# EAGLE library part TB6593FNG (library ICs)
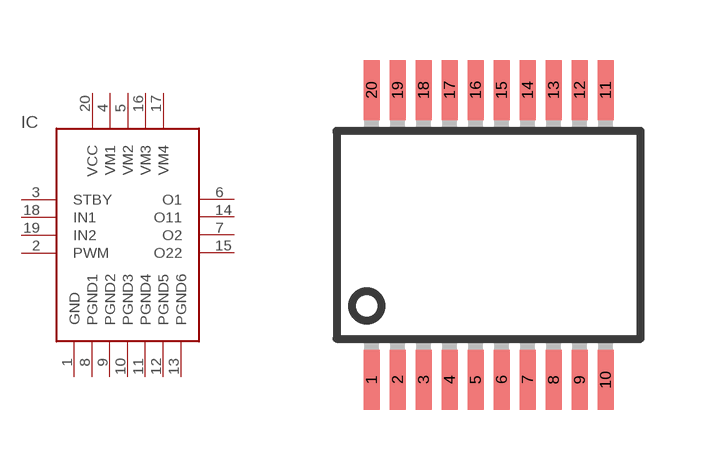
[diagram p3: symbol with the pads of SSOP20; footprint SSOP20]

Designator prefix IC

## TB6593FNGSSOP20  [SSOP20]
1  GND  pwr
2  PWM  in
3  STBY  in
4  VM1  pwr
5  VM2  pwr
6  O1  out
7  O2  out
8  PGND1  pwr
9  PGND2  pwr
10  PGND3  pwr
11  PGND4  pwr
12  PGND5  pwr
13  PGND6  pwr
14  O11  out
15  O22  out
16  VM3  pwr
17  VM4  pwr
18  IN1  in
19  IN2  in
20  VCC  pwr

## Footprint SSOP20 (pad centres in mm)
Shrink Small Outline Package package type SS
smd 0.4 x 1.5: 1 -2.925,-3.625; 2 -2.275,-3.625; 3 -1.625,-3.625; 4 -0.975,-3.625; 5 -0.325,-3.625; 6 0.325,-3.625; 7 0.975,-3.625; 8 1.625,-3.625; 9 2.275,-3.625; 10 2.925,-3.625; 11 2.925,3.625; 12 2.275,3.625; 13 1.625,3.625; 14 0.975,3.625; 15 0.325,3.625; 16 -0.325,3.625; 17 -0.975,3.625; 18 -1.625,3.625; 19 -2.275,3.625; 20 -2.925,3.625